# Altium footprint library SOIC_TPS5403.PcbLib: 1 footprints
Each footprint in its own frame and in the unit in brackets; x right, y up, seen from the top. Pads: shape width x height; smd on the part's side, far side on the other; paste and mask are expansions set on the pad; w line width, h text height; cw(c..) or ccw(c..) is an arc to the next point about the centre after c.
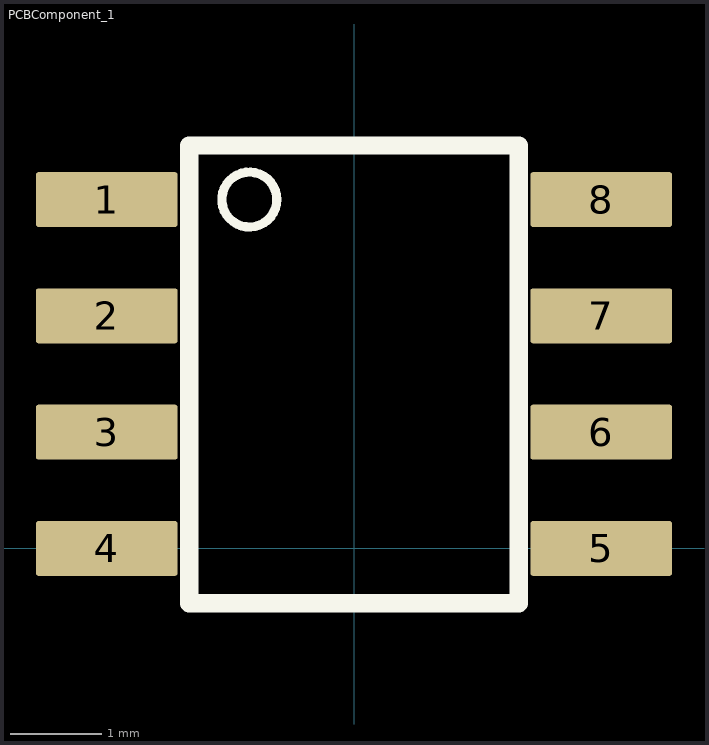
[diagram p0: the footprint, top view; thin cyan lines are the x and y axes]

## PCBComponent_1 [mm]
pads (8):
  rrect10% 1.55x0.6 smd mask+0.07: 1(-2.7,3.81) 2(-2.7,2.54) 3(-2.7,1.27) 4(-2.7,0) 5(2.7,0) 6(2.7,1.27) 7(2.7,2.54) 8(2.7,3.81)
Top Overlay:
  circle w0.1: c-1.143,3.81 r0.3
  lines w0.2: -1.8,-0.6 1.8,-0.6 1.8,4.4 -1.8,4.4 -1.8,-0.6
3D body "TPS5403DR.STEP": height 1.75, standoff 0, extent -2.997,-0.551 2.997,4.351